# Altium schematic symbol library XTAL_32_768Mhz_XRCGB32M768F2N10R0.SchLib: 1 symbol
Pins are listed as number, name and electrical type; pins without a type are passive.

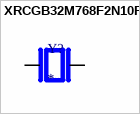
[diagram p0: symbol XRCGB32M768F2N10R0]

## XRCGB32M768F2N10R0
designator Y?
Crystals; MF: Murata Electronics; MP: XRCGB32M768F2N10R0; Price: None; Check_prices: https://www.snapeda.com/parts/XRCGB32M768F2N10R0/Applied%20Avionics/view-part/3601505/?ref=eda; Package: SMD-4 Murata; Purchase-URL: https://pricing.snapeda.com/search/part/XRCGB32M768F2N10R0/?ref=eda; SnapEDA_Link: https://www.snapeda.com/parts/XRCGB32M768F2N10R0/Applied%20Avionics/view-part/3601505/?ref=snap; Value: *; Availability: Warning
footprint OSC_XRCGB32M768F2N10R0
pins: 1, 3